# Altium footprint library PcbLib2.PcbLib: 58 footprints (part 1 of 4)
Each footprint in its own frame and in the unit in brackets; x right, y up, seen from the top. Pads: shape width x height; smd on the part's side, far side on the other; paste and mask are expansions set on the pad; w line width, h text height; cw(c..) or ccw(c..) is an arc to the next point about the centre after c.
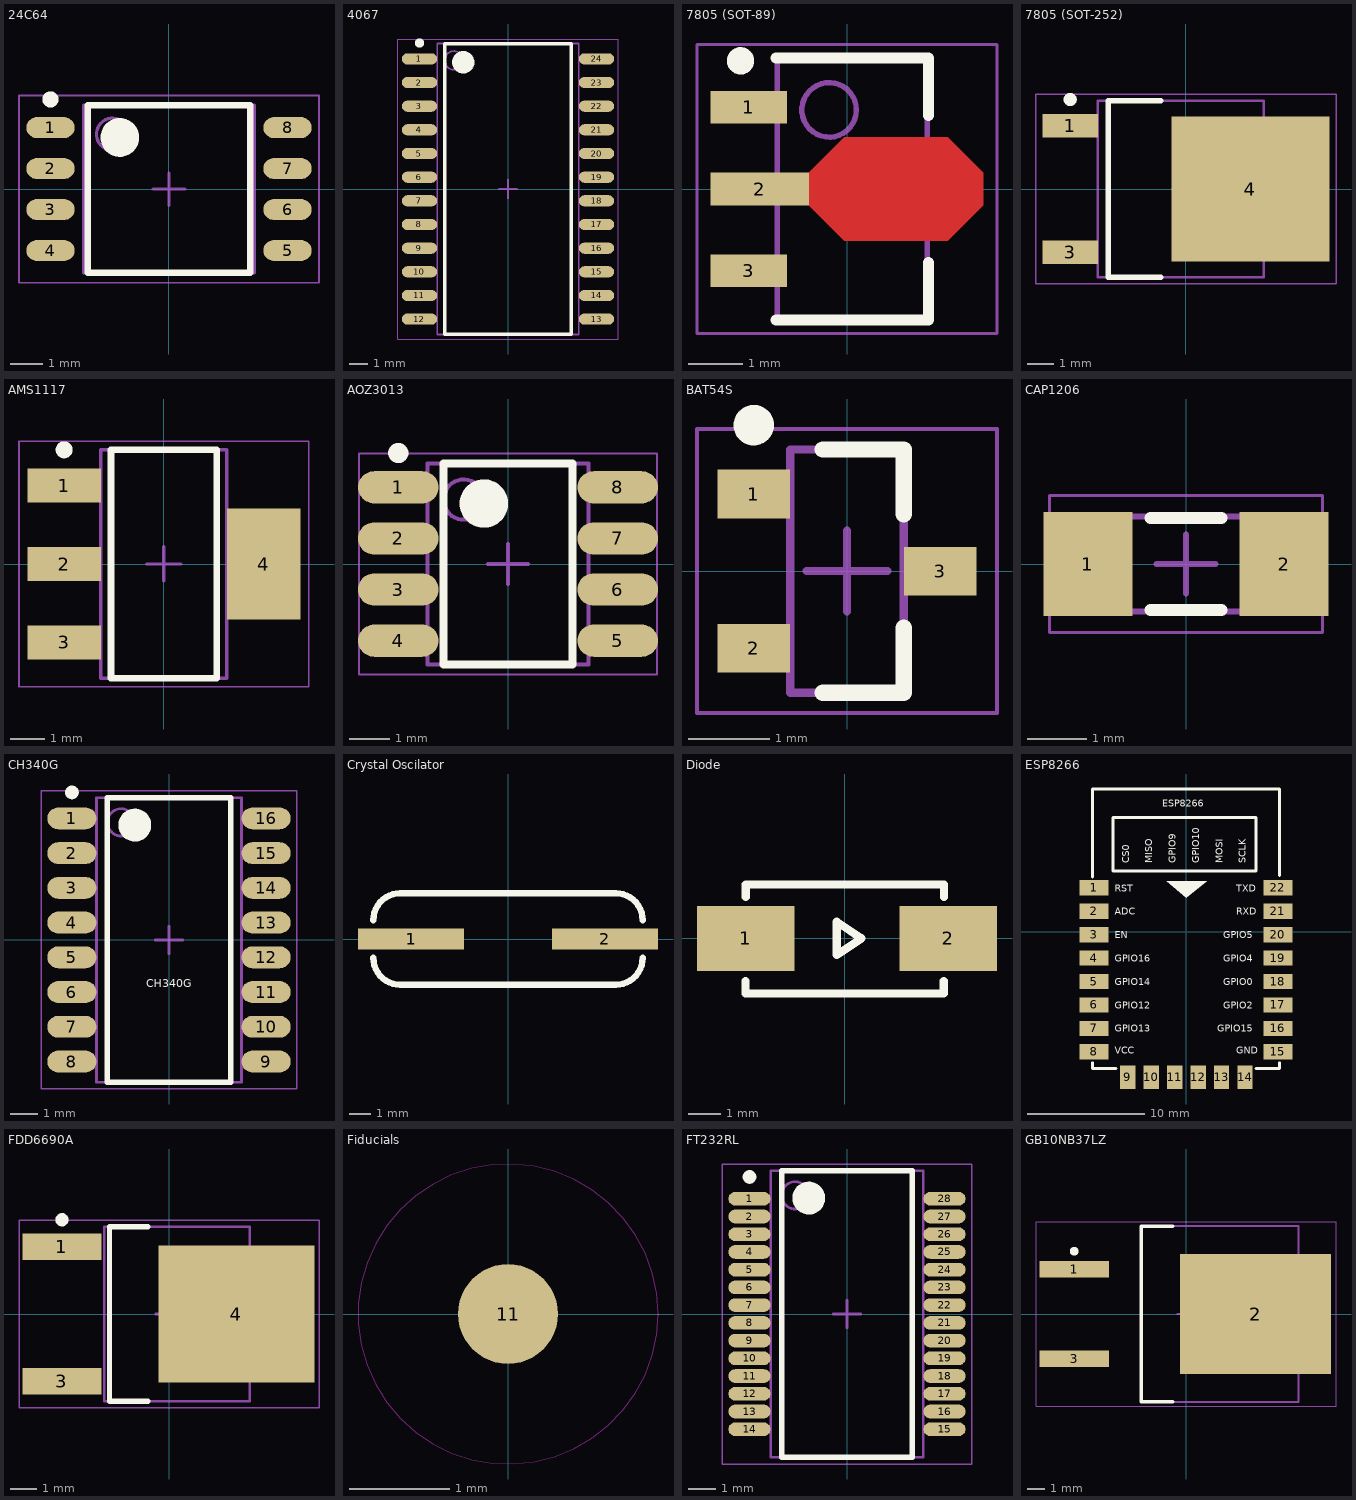
[diagram p0: the footprints below, top view; thin cyan lines are the x and y axes]

## 24C64 [mm] "SOIC, 8-Leads, Body 5.21x5.28mm, Pitch 1.27mm, IPC Medium Density"
height 1.97
pads (8):
  oval 1.5x0.65 smd: 1(-3.675,1.905) 2(-3.675,0.635) 3(-3.675,-0.635) 4(-3.675,-1.905) 5(3.675,-1.905) 6(3.675,-0.635) 7(3.675,0.635) 8(3.675,1.905)
Top Overlay:
  circle w0.25: c-3.675,2.78 r0.125
  circle w0.6: c-1.525,1.6 r0.3
  lines w0.2: -2.525,-2.6 -2.525,2.6 2.525,2.6 2.525,-2.6 -2.525,-2.6
Mechanical 13:
  circle w0.1: c-1.75,1.7 r0.5
  lines w0.1: -2.65,-2.6 -2.65,2.6 2.65,2.6 2.65,-2.6 -2.65,-2.6
Mechanical 15:
  lines w0.05: -4.65,-2.9 -4.65,2.9 4.65,2.9 4.65,-2.9 -4.65,-2.9
  lines w0.1: -0.5,0 0.5,0 ; 0,-0.5 0,0.5
3D body "SOIC127P800X197-8N.step": height 1.97, standoff 0, extent -3.975,-2.6 3.975,2.6

## 4067 [mm] "SOP, 24-Leads, Body 15.40x7.50mm, Pitch 1.27mm, IPC Medium Density"
height 2.65
pads (24):
  oval 1.9x0.6 smd: 1(-4.75,6.985) 2(-4.75,5.715) 3(-4.75,4.445) 4(-4.75,3.175) 5(-4.75,1.905) 6(-4.75,0.635) 7(-4.75,-0.635) 8(-4.75,-1.905) 9(-4.75,-3.175) 10(-4.75,-4.445) 11(-4.75,-5.715) 12(-4.75,-6.985) 13(4.75,-6.985) 14(4.75,-5.715) 15(4.75,-4.445) 16(4.75,-3.175) 17(4.75,-1.905) 18(4.75,-0.635) 19(4.75,0.635) 20(4.75,1.905) 21(4.75,3.175) 22(4.75,4.445) 23(4.75,5.715) 24(4.75,6.985)
Top Overlay:
  circle w0.6: c-2.4,6.8 r0.3
  circle w0.25: c-4.75,7.835 r0.125
  lines w0.2: -3.4,-7.8 3.4,-7.8 3.4,7.8 -3.4,7.8 -3.4,-7.8
Mechanical 13:
  circle w0.1: c-2.9,6.9 r0.5
  lines w0.1: -3.8,-7.8 3.8,-7.8 3.8,7.8 -3.8,7.8 -3.8,-7.8
Mechanical 15:
  lines w0.05: -5.925,-8.05 5.925,-8.05 5.925,8.05 -5.925,8.05 -5.925,-8.05
  lines w0.1: -0.5,0 0.5,0 ; 0,-0.5 0,0.5
3D body "SOP127P1030X265-24N.step": height 2.65, standoff 0, extent -5.15,-7.8 5.15,7.8

## 7805 (SOT-89) [mm] "SOT89, 3-Leads, Body 4.50x2.45mm, Pitch 1.50mm, Lead Span 4.1mm, IPC Medium Density"
height 1.7
pads (3):
  rect 1.4x0.6 smd: 1(-1.8,1.5) 3(-1.8,-1.5)
  rect 1.8x0.6 smd: 2(-1.6,0)
Top Layer:
  region: -0.7,0.3 -0.05,0.95 1.85,0.95 2.5,0.3 2.5,-0.3 1.85,-0.95 -0.05,-0.95 -0.7,-0.3
Top Overlay:
  circle w0.25: c-1.953,2.35 r0.125
  lines w0.2: -1.302,-2.4 1.498,-2.4 1.498,-1.35 ; -1.302,2.4 1.498,2.4 1.498,1.35
Mechanical 13:
  circle w0.1: c-0.327,1.45 r0.5
  lines w0.1: -1.278,-2.4 1.472,-2.4 1.472,2.4 -1.278,2.4 -1.278,-2.4
Mechanical 15:
  lines w0.05: -2.75,-2.65 2.75,-2.65 2.75,2.65 -2.75,2.65 -2.75,-2.65
  lines w0.1: -0.403,0 0.597,0 ; 0.098,-0.5 0.098,0.5
3D body "SOT89-150P410X170-3N.step": height 1.7, standoff 0, extent -2.275,-2.397 1.775,2.397

## 7805 (SOT-252) [mm] "D-PAK, 3-Pads, Body 6.25x6.71mm (max), IPC Medium Density"
height 2.4
pads (3):
  rect 2.1x0.9 smd: 1(-4.4,2.4) 3(-4.4,-2.4)
  rect 6x5.5 smd: 4(2.45,0)
Top Overlay:
  circle w0.25: c-4.4,3.4 r0.125
  lines w0.2: -0.95,-3.35 -2.95,-3.35 -2.95,3.35 -0.95,3.35
Mechanical 13:
  lines w0.1: -3.35,-3.35 2.95,-3.35 2.95,3.35 -3.35,3.35 -3.35,-3.35
Mechanical 15:
  lines w0.05: -5.7,-3.6 5.7,-3.6 5.7,3.6 -5.7,3.6 -5.7,-3.6
  lines w0.1: -0.5,0 0.5,0 ; 0,-0.5 0,0.5
3D body "DPAK240P991X240-3N.step": height 2.45, standoff 0, extent -5.06,-3.35 4.85,3.35

## AMS1117 [mm] "SOT223, 4-Leads, Body 6.30x7.00mm (avg), Pitch 2.30mm, IPC Medium Density"
height 1.65
pads (4):
  rect 2.15x1 smd: 1(-2.925,2.3) 2(-2.925,0) 3(-2.925,-2.3)
  rect 2.15x3.25 smd: 4(2.925,0)
Top Overlay:
  circle w0.25: c-2.925,3.35 r0.125
  lines w0.2: -1.55,-3.35 -1.55,3.35 1.55,3.35 1.55,-3.35 -1.55,-3.35
Mechanical 13:
  lines w0.1: -1.85,-3.35 -1.85,3.35 1.85,3.35 1.85,-3.35 -1.85,-3.35
Mechanical 15:
  lines w0.05: -4.25,-3.6 -4.25,3.6 4.25,3.6 4.25,-3.6 -4.25,-3.6
  lines w0.1: -0.5,0 0.5,0 ; 0,-0.5 0,0.5
3D body "SOT230P700X165-4N.step": height 1.65, standoff 0, extent -3.5,-3.35 3.5,3.35

## AOZ3013 [mm] "SOIC, 8-Leads, Body 4.90x17.40mm, Pitch 1.27mm, IPC Medium Density"
height 1.55
pads (8):
  oval 2x0.8 smd: 1(-2.725,1.905) 2(-2.725,0.635) 3(-2.725,-0.635) 4(-2.725,-1.905) 5(2.725,-1.905) 6(2.725,-0.635) 7(2.725,0.635) 8(2.725,1.905)
Top Overlay:
  circle w0.25: c-2.725,2.755 r0.125
  circle w0.6: c-0.6,1.5 r0.3
  lines w0.2: -1.6,-2.5 -1.6,2.5 1.6,2.5 1.6,-2.5 -1.6,-2.5
Mechanical 13:
  circle w0.1: c-1.1,1.6 r0.5
  lines w0.1: -2,-2.5 -2,2.5 2,2.5 2,-2.5 -2,-2.5
Mechanical 15:
  lines w0.05: -3.7,-2.75 -3.7,2.75 3.7,2.75 3.7,-2.75 -3.7,-2.75
  lines w0.1: -0.5,0 0.5,0 ; 0,-0.5 0,0.5
3D body "SOIC127P600X155-8N.step": height 1.55, standoff 0, extent -3,-2.5 3,2.5

## BAT54S [mm] "SOT23, 3-Leads, Body 2.90x2.30mm, Pitch 0.95mm, IPC Medium Density"
height 1.1
pads (3):
  rect 0.9x0.6 smd: 1(-1.15,0.95) 2(-1.15,-0.95) 3(1.15,0)
Top Overlay:
  circle w0.25: c-1.15,1.8 r0.125
  lines w0.2: -0.3,-1.5 0.7,-1.5 0.7,-0.7 ; -0.3,1.5 0.7,1.5 0.7,0.7
Mechanical 13:
  lines w0.1: -0.7,-1.5 -0.7,1.5 0.7,1.5 0.7,-1.5 -0.7,-1.5
Mechanical 15:
  lines w0.05: -1.85,-1.75 -1.85,1.75 1.85,1.75 1.85,-1.75 -1.85,-1.75
  lines w0.1: -0.5,0 0.5,0 ; 0,-0.5 0,0.5
3D body "SOT95P230X110-3N.step": height 1.1, standoff 0, extent -1.3,-1.5 1.3,1.5

## CAP1206 [mm] "Chip Capacitor, 2-Leads, Body 3.20x1.60mm, IPC Medium Density"
height 1
pads (2):
  rect 1.5x1.75 smd: 1(-1.651,0) 2(1.651,0)
Top Overlay:
  lines w0.2: -0.6,-0.775 0.6,-0.775 ; -0.6,0.775 0.6,0.775
Mechanical 13:
  lines w0.1: -1.6,-0.8 1.6,-0.8 1.6,0.8 -1.6,0.8 -1.6,-0.8
Mechanical 15:
  lines w0.05: -2.3,-1.15 2.3,-1.15 2.3,1.15 -2.3,1.15 -2.3,-1.15
  lines w0.1: -0.5,0 0.5,0 ; 0,-0.5 0,0.5
3D body "CAPC3216X10N.step": height 1, standoff 0, extent -1.6,-0.8 1.6,0.8

## CH340G [mm] "SOIC, 16-Leads, Body 10.40x5.30mm, Pitch 1.27mm, IPC Medium Density"
height 1.97
pads (16):
  oval 1.8x0.8 smd: 1(-3.55,4.445) 2(-3.55,3.175) 3(-3.55,1.905) 4(-3.55,0.635) 5(-3.55,-0.635) 6(-3.55,-1.905) 7(-3.55,-3.175) 8(-3.55,-4.445) 9(3.55,-4.445) 10(3.55,-3.175) 11(3.55,-1.905) 12(3.55,-0.635) 13(3.55,0.635) 14(3.55,1.905) 15(3.55,3.175) 16(3.55,4.445)
Top Overlay:
  circle w0.25: c-3.55,5.395 r0.125
  circle w0.6: c-1.25,4.2 r0.3
  lines w0.2: -2.25,-5.2 -2.25,5.2 2.25,5.2 2.25,-5.2 -2.25,-5.2
  text "CH340G" at -0.839,-1.728 h0.3
Mechanical 13:
  circle w0.1: c-1.75,4.3 r0.5
  lines w0.1: -2.65,-5.2 -2.65,5.2 2.65,5.2 2.65,-5.2 -2.65,-5.2
Mechanical 15:
  lines w0.05: -4.675,-5.45 -4.675,5.45 4.675,5.45 4.675,-5.45 -4.675,-5.45
  lines w0.1: -0.5,0 0.5,0 ; 0,-0.5 0,0.5
3D body "SOIC127P800X197-16N.step": height 1.97, standoff 0, extent -4,-5.2 4,5.2

## Crystal Oscilator [mm]
pads (2):
  rect 5x1 smd: 1(-4.572,0) 2(4.572,0)
Top Overlay:
  lines w0.3: -6.35,-0.889 ccw(c-5.08,-0.889) -5.08,-2.159 5.08,-2.159 ccw(c5.08,-0.889) 6.35,-0.889 ; -6.35,0.889 cw(c-5.08,0.889) -5.08,2.159 5.08,2.159 cw(c5.08,0.889) 6.35,0.889
3D body "8MHz.STEP": height 4.21, standoff 0.1, extent -6.5,-2.35 6.5,2.35

## Diode [mm]
pads (2):
  rect 3x2 smd: 1(-3.048,0) 2(3.175,0)
Top Overlay:
  lines w0.254: -3.057,-1.313 -3.057,-1.694 3.039,-1.694 3.039,-1.313 ; -3.048,1.27 -3.048,1.651 3.048,1.651 3.048,1.27 ; -0.254,-0.508 -0.254,0.508 0.508,0 -0.254,-0.508
3D body "DO-215AA diode.stp": height 2.26, standoff 0.02, extent -3.122,-1.778 3.124,1.778

## ESP8266 [mm]
pads (22):
  rect 2.5x1.3 smd: 1(-7.845,3.763) 2(-7.845,1.761) 3(-7.845,-0.24) 4(-7.845,-2.242) 5(-7.845,-4.243) 6(-7.845,-6.244) 7(-7.845,-8.246) 8(-7.845,-10.247) 15(7.845,-10.247) 16(7.845,-8.246) 17(7.845,-6.244) 18(7.845,-4.243) 19(7.845,-2.242) 20(7.845,-0.24) 21(7.845,1.761) 22(7.845,3.763)
  rect 1.3x2 smd: 9(-4.967,-12.417) 10(-2.965,-12.417) 11(-0.964,-12.417) 12(1.037,-12.417) 13(3.039,-12.417) 14(5.04,-12.417)
Top Overlay:
  region: -1.651,4.318 1.778,4.318 0,2.921
  lines w0.254: -8.001,-11.176 -8.001,-11.684 -5.969,-11.684 ; -8.001,4.699 -8.001,12.192 8.001,12.192 8.001,4.826 ; 5.969,-11.684 8.001,-11.684 8.001,-11.176 ; -6.223,5.207 5.969,5.207 5.969,9.779 -6.223,9.779 -6.223,5.207
  text "GND" at 4.269,-10.411 h0.6
  text "GPIO15" at 2.67,-8.542 h0.6
  text "GPIO2" at 3.17,-6.547 h0.6
  text "GPIO0" at 3.17,-4.551 h0.6
  text "GPIO4" at 3.17,-2.555 h0.6
  text "GPIO5" at 3.17,-0.559 h0.6
  text "RXD" at 4.269,1.436 h0.6
  text "TXD" at 4.269,3.432 h0.6
  text "VCC" at -6.093,-10.411 h0.6
  text "GPIO13" at -6.093,-8.542 h0.6
  text "GPIO12" at -6.093,-6.547 h0.6
  text "GPIO14" at -6.093,-4.551 h0.6
  text "GPIO16" at -6.093,-2.555 h0.6
  text "EN" at -6.093,-0.559 h0.6
  text "ADC" at -6.093,1.436 h0.6
  text "RST" at -6.093,3.432 h0.6
  text "SCLK" at 5.113,5.845 h0.6
  text "MOSI" at 3.118,5.845 h0.6
  text "GPIO10" at 1.122,5.845 h0.6
  text "GPIO9" at -0.874,5.845 h0.6
  text "MISO" at -2.87,5.845 h0.6
  text "CS0" at -4.865,5.845 h0.6
  text "ESP8266" at -2.029,10.671 h0.6
3D body "ESP-12F.STEP": height 3.17, standoff 0, extent -8,-11.746 8,12.254

## FDD6690A [mm] "D-PAK, 3-Pads, Body 5.85x6.66mm (max), IPC Medium Density"
height 3
pads (3):
  rect 3x1 smd: 1(-4.05,2.54) 3(-4.05,-2.54)
  rect 5.9x5.2 smd: 4(2.55,0)
Top Overlay:
  circle w0.25: c-4.05,3.565 r0.125
  lines w0.2: -0.8,-3.3 -2.25,-3.3 -2.25,3.3 -0.8,3.3
Mechanical 13:
  lines w0.1: -2.45,-3.3 3.05,-3.3 3.05,3.3 -2.45,3.3 -2.45,-3.3
Mechanical 15:
  lines w0.05: -5.675,-3.55 5.675,-3.55 5.675,3.55 -5.675,3.55 -5.675,-3.55
  lines w0.1: -0.5,0 0.5,0 ; 0,-0.5 0,0.5
3D body "DPAK254P1000X300-3N.step": height 3.03, standoff 0, extent -5,-3.3 5,3.3

## Fiducials [mm]
pads (1):
  round 1 smd paste-1 mask+1: 11(0,0)
Top Layer keep-out:
  circle w0.01: c0,0 r1.5
3D body: height -0.1, standoff -0.2, extent -0.5,-0.5 0.5,0.5

## FT232RL [mm] "SOP, 28-Leads, Body 10.28x5.30mm, Pitch 0.65mm, IPC Medium Density"
height 2
pads (28):
  oval 1.55x0.5 smd: 1(-3.575,4.225) 2(-3.575,3.575) 3(-3.575,2.925) 4(-3.575,2.275) 5(-3.575,1.625) 6(-3.575,0.975) 7(-3.575,0.325) 8(-3.575,-0.325) 9(-3.575,-0.975) 10(-3.575,-1.625) 11(-3.575,-2.275) 12(-3.575,-2.925) 13(-3.575,-3.575) 14(-3.575,-4.225) 15(3.575,-4.225) 16(3.575,-3.575) 17(3.575,-2.925) 18(3.575,-2.275) 19(3.575,-1.625) 20(3.575,-0.975) 21(3.575,-0.325) 22(3.575,0.325) 23(3.575,0.975) 24(3.575,1.625) 25(3.575,2.275) 26(3.575,2.925) 27(3.575,3.575) 28(3.575,4.225)
Top Overlay:
  circle w0.25: c-3.575,5.025 r0.125
  circle w0.6: c-1.4,4.25 r0.3
  lines w0.2: -2.4,-5.25 -2.4,5.25 2.4,5.25 2.4,-5.25 -2.4,-5.25
Mechanical 13:
  circle w0.1: c-1.9,4.35 r0.5
  lines w0.1: -2.8,-5.25 -2.8,5.25 2.8,5.25 2.8,-5.25 -2.8,-5.25
Mechanical 15:
  lines w0.05: -4.575,-5.5 -4.575,5.5 4.575,5.5 4.575,-5.5 -4.575,-5.5
  lines w0.1: -0.5,0 0.5,0 ; 0,-0.5 0,0.5
3D body "SOP65P780X200-28N.step": height 2, standoff 0, extent -3.888,-5.25 3.888,5.25

## GB10NB37LZ [mm] "D2-PAK, 3-Pads, Body 7.57x8.36mm (max), IPC Medium Density"
height 4.4
pads (3):
  rect 3.95x0.95 smd: 1(-6.35,2.54) 3(-6.35,-2.54)
  rect 8.6x6.8 smd: 2(3.95,0)
Top Overlay:
  circle w0.25: c-6.35,3.565 r0.125
  lines w0.2: -0.75,-5 -2.55,-5 -2.55,5 -0.75,5
Mechanical 13:
  lines w0.1: -2.55,-5 6.4,-5 6.4,5 -2.55,5 -2.55,-5
Mechanical 15:
  lines w0.05: -8.525,-5.25 8.525,-5.25 8.525,5.25 -8.525,5.25 -8.525,-5.25
  lines w0.1: -0.5,0 0.5,0 ; 0,-0.5 0,0.5
3D body "DPAK254P1542X440-3N.step": height 4.43, standoff 0, extent -7.425,-5 8,5